# Altium schematic symbol library gamma_gestionkicker.SchLib: 19 symbols
Pins are listed as number, name and electrical type; pins without a type are passive.

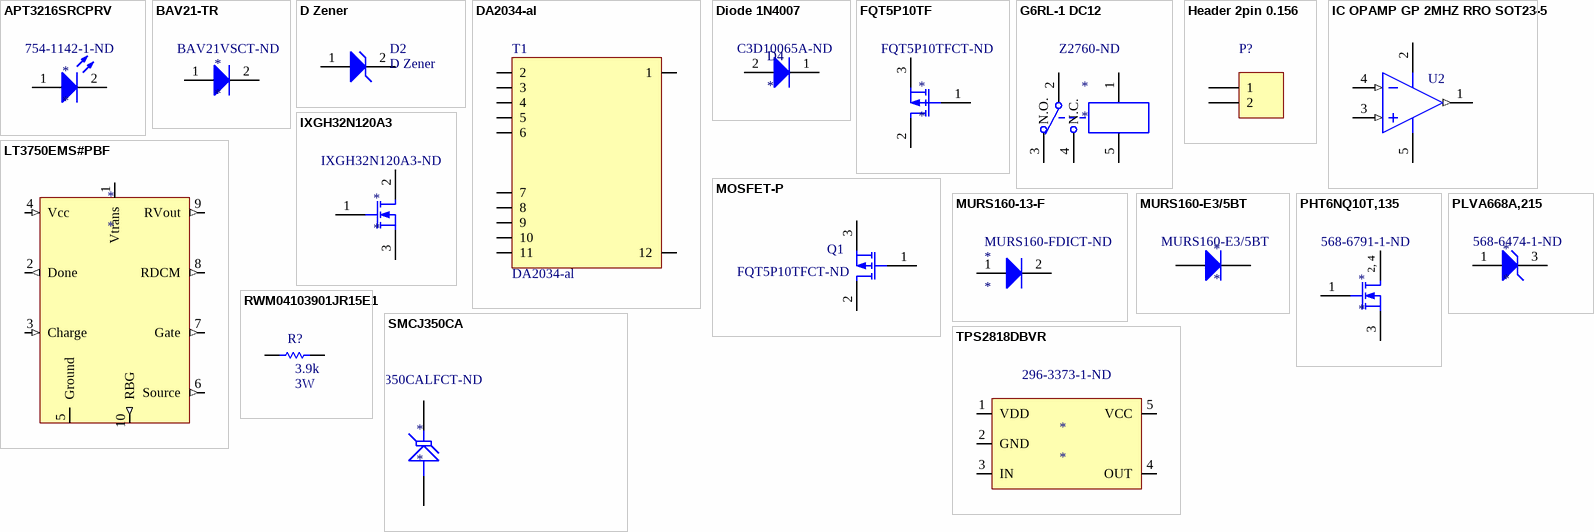
[diagram p0: symbols APT3216SRCPRV to TPS2818DBVR]

## APT3216SRCPRV
designator *  Supplier Part Number 1: 754-1142-1-ND
LED RED CLEAR 1206 SMD; Manufacturer: Kingbright; Manufacturer Part Number: APT3216SRCPRV; Lens Color: Colorless; Millicandela Rating: 30mcd; Lens Style/Size: Rectangle with Flat Top, 2.00mm x 1.60mm; Voltage - Forward (Vf) (Typ): 1.85V; Current - Test: 20mA; Viewing Angle: 120°; Wavelength - Dominant: 640nm; Wavelength - Peak: 655nm; Supplier 1: Digi-Key; RoHS: RoHS Compliant; Category: Optoelectronics; Stock 1: 56279; Pricing 1: 1=0.64, 10=0.462, 25=0.3536, 100=0.2308, 250=0.1692, 500=0.14356, 1000=0.11793 (CAD); Packaging: Cut Tape (CT); Part Status: Active; Color: Red; Lens Transparency: Clear; Mounting Type: Surface Mount; Features: -; Package / Case: 1206 (3216 Metric); Supplier Device Package: Chip LED; Size / Dimension: 3.20mm L x 1.60mm W; Height (Max): 0.75mm; ComponentLink1URL: http://www.kingbrightusa.com/images/catalog/SPEC/APT3216SRCPRV.pdf; ComponentLink1Description: http://www.kingbrightusa.com/images/catalog/SPEC/APT3216SRCPRV.pdf
footprint 5mm_led
pins: 1 A, 2 K

## BAV21-TR
designator *  Supplier Part Number 1: BAV21VSCT-ND
DIODE GEN PURP 200V 250MA DO35; Manufacturer: Vishay Semiconductor Diodes Division; Manufacturer Part Number: BAV21-TR; Diode Type: Standard; Current - Average Rectified (Io): 250mA (DC); Voltage - Forward (Vf) (Max) @ If: 1V @ 100mA; Speed: Fast Recovery =< 500ns, > 200mA (Io); Reverse Recovery Time (trr): 50ns; Current - Reverse Leakage @ Vr: 100nA @ 200V; Capacitance @ Vr, F: 1.5pF @ 0V, 1MHz; Supplier 1: Digi-Key; RoHS: RoHS Compliant; Category: Discrete Semiconductor Products; Stock 1: 37950; Pricing 1: 1=0.25, 10=0.229, 25=0.218, 100=0.1249, 250=0.09256, 500=0.07682, 1000=0.05238, 2500=0.04452, 5000=0.04016 (CAD); Packaging: Cut Tape (CT); Part Status: Active; Voltage - DC Reverse (Vr) (Max): 200V; Mounting Type: Through Hole; Package / Case: DO-204AH, DO-35, Axial; Supplier Device Package: DO-35; Operating Temperature - Junction: 175°C (Max); ComponentLink1URL: http://www.vishay.com/docs/85543/bav17.pdf; ComponentLink1Description: http://www.vishay.com/docs/85543/bav17.pdf
footprint DO-35 (Diode, Axial; Body 3.8 x 1.9 mm (LxDia. max), Lead Dia. 0.53 mm (max))
pins: 1 A, 2 K

## D Zener
designator D2
Zener Diode; Published: 8-Jun-2000; LatestRevisionDate: 17-Jul-2002; LatestRevisionNote: Re-released for DXP Platform.; PackageReference: DIODE-0.7; Publisher: Altium Limited; PackageDescription: Diode, Thru-Hole; 2 Leads; 0.7 in Pin Spacing
footprint DIODE-0.7 (Diode, Thru-Hole; 2 Leads; 0.7 in Pin Spacing)
simulation model ZENER (Diode)
signal-integrity model D Zener
pins: 1 A, 2 K

## DA2034-al
designator T1
Supplier 1: Coilcraft; Supplier Part Number 1: Da2034-al
footprint DA2034 (Coilcraft Da2034-al)
pins: 1, 2, 3, 4, 5, 6, 7, 8, 9, 10, 11, 12

## Diode 1N4007
designator D4  Supplier Part Number 1: C3D10065A-ND
DIODE SCHOTTKY 650V 10A TO220-2; Manufacturer: Cree/Wolfspeed; Manufacturer Part Number: C3D10065A; Diode Type: Silicon Carbide Schottky; Current - Average Rectified (Io): 10A (DC); Voltage - Forward (Vf) (Max) @ If: 1.8V @ 10A; Speed: No Recovery Time > 500mA (Io); Reverse Recovery Time (trr): 0ns; Current - Reverse Leakage @ Vr: 60µA @ 650V; Capacitance @ Vr, F: 480pF @ 0V, 1MHz; Supplier 1: Digi-Key; RoHS: RoHS Compliant; Category: Discrete Semiconductor Products; Stock 1: 1057; Pricing 1: 1=7.29, 100=6.0738, 500=5.2122, 1000=4.56245 (CAD); Packaging: Tube; Part Status: Active; Voltage - DC Reverse (Vr) (Max): 650V; Mounting Type: Through Hole; Package / Case: TO-220-2; Supplier Device Package: TO-220-2; Operating Temperature - Junction: -55°C ~ 175°C; ComponentLink1URL: http://www.wolfspeed.com/media/downloads/73/C3D10065A.pdf; ComponentLink1Description: http://www.wolfspeed.com/media/downloads/73/C3D10065A.pdf
footprint TO-220-2 (TO, Thru-Hole, Vertical, Heatsink Mounted; 3 In-Line Leads (1 Absent); Pitch 2.54 mm)
pins: 1 K, 2 A

## FQT5P10TF
designator *  Supplier Part Number 1: FQT5P10TFCT-ND
MOSFET P-CH 100V 1A SOT-223; Manufacturer: Fairchild Semiconductor; Manufacturer Part Number: FQT5P10TF; FET Type: MOSFET P-Channel, Metal Oxide; FET Feature: Standard; Current - Continuous Drain (Id) @ 25°C: 1A (Tc); Rds On (Max) @ Id, Vgs: 1.05 Ohm @ 500mA, 10V; Vgs(th) (Max) @ Id: 4V @ 250µA; Gate Charge (Qg) @ Vgs: 8.2nC @ 10V; Input Capacitance (Ciss) @ Vds: 250pF @ 25V; Power - Max: 2W; Supplier 1: Digi-Key; RoHS: RoHS Compliant; Category: Discrete Semiconductor Products; Stock 1: 526; Pricing 1: 1=0.86, 10=0.737, 100=0.5503, 500=0.43224, 1000=0.33321 (CAD); Packaging: Cut Tape (CT); Part Status: Active; Drain to Source Voltage (Vdss): 100V; Operating Temperature: -55°C ~ 150°C (TJ); Mounting Type: Surface Mount; Package / Case: TO-261-4, TO-261AA; Supplier Device Package: SOT-223-4; ComponentLink1URL: http://www.fairchildsemi.com/datasheets/FQ/FQT5P10.pdf; ComponentLink1Description: http://www.fairchildsemi.com/datasheets/FQ/FQT5P10.pdf
footprint SOT-223 (SOT-223/SC-73; 4 Leads; Body 6.7 x 7.3 mm, inc. leads (LxW max))
pins: 1 G, 2 D, 3 S

## G6RL-1 DC12
designator *  Supplier Part Number 1: Z2760-ND
RELAY GEN PURPOSE SPDT 8A 12V; Manufacturer: Omron Electronics Inc-EMC Div; Manufacturer Part Number: G6RL-1 DC12; Relay Type: General Purpose; Coil Type: Non Latching; Coil Current: 18.3mA; Coil Voltage: 12VDC; Contact Form: SPDT (1 Form C); Switching Voltage: 400VAC, 300VDC - Max; Turn On Voltage (Max): 8.4 VDC; Turn Off Voltage (Min): 1.2 VDC; Operate Time: 10ms; Release Time: 5ms; Coil Power: 220 mW; Coil Resistance: 654 Ohms; Supplier 1: Digi-Key; RoHS: RoHS Compliant; Category: Relays; Stock 1: 680; Pricing 1: 1=4.79, 10=4.489, 25=3.99, 50=3.7906, 100=3.591, 250=3.19208, 500=2.99256, 1000=2.79306, 5000=2.69331 (CAD); Packaging: Bulk; Part Status: Active; Contact Rating (Current): 8A; Features: Sealed - Flux Protection; Mounting Type: Through Hole; Termination Style: PC Pin; Contact Material: Silver Nickel (AgNi); Operating Temperature: -40°C ~ 85°C; ComponentLink1URL: http://www.omron.com/ecb/products/pdf/en-g6rl.pdf; ComponentLink1Description: http://www.omron.com/ecb/products/pdf/en-g6rl.pdf
footprint G6RL (Omron SPDT relay)
pins: 1 Coil Input +, 2 Signal Input, 3 N.O., 4 N.C., 5 Coil Input -

## Header 2pin 0.156
designator P?, comment Header 2  (value not drawn)
Header, 2-Pin, 0.156mil
footprint 0.156mil header (SOIC, 4-Leads, Body 2,60x4,55mm, Pitch 1,27mm, IPC Medium Density)
pins: 1, 2

## IC OPAMP GP 2MHZ RRO SOT23-5
designator U2, comment opamp - MCP6L71RT-E/OTCT-ND  (value not drawn)
FET Operational Amplifier; Supplier 1: Digi-Key; Supplier Part Number 1: MCP6L71RT-E/OTCT-ND
footprint SOT-23-5
pins: 1 OUT (out), 2 V+ (power), 3 IN+ (in), 4 IN- (in), 5 V- (power)

## IXGH32N120A3
designator *  Supplier Part Number 1: IXGH32N120A3-ND
IGBT 1200V 75A 300W TO247; Manufacturer: IXYS; Manufacturer Part Number: IXGH32N120A3; IGBT Type: PT; Current - Collector Pulsed (Icm): 230A; Vce(on) (Max) @ Vge, Ic: 2.35V @ 15V, 32A; Input Type: Standard; Gate Charge: 89nC; Supplier 1: Digi-Key; RoHS: RoHS Compliant; Category: Discrete Semiconductor Products; Stock 1: 13; Pricing 1: 1=10.99, 10=9.885, 25=9.0056, 100=8.1269, 250=7.468, 500=6.80904, 1000=5.93046, 2500=5.71081, 5000=5.49117 (CAD); Packaging: Tube; Part Status: Active; Voltage - Collector Emitter Breakdown (Max): 1200V; Current - Collector (Ic) (Max): 75A; Power - Max: 300W; Switching Energy: -; Td (on/off) @ 25°C: -; Test Condition: -; Reverse Recovery Time (trr): -; Package / Case: TO-247-3; Mounting Type: Through Hole; Supplier Device Package: TO-247AD (IXGH); ComponentLink1URL: http://ixdev.ixys.com/DataSheet/DS99608C(IXGH-GT32N120A3).pdf; ComponentLink1Description: http://ixdev.ixys.com/DataSheet/DS99608C(IXGH-GT32N120A3).pdf
footprint TO-247 (bent)
pins: 1 G, 2 D, 3 S

## LT3750EMS#PBF
designator *
IC CONVERTER 10-MSOP; Manufacturer: Linear Technology; Manufacturer Part Number: LT3750EMS#PBF; Supplier 1: Digi-Key; RoHS: RoHS Compliant; Category: Integrated Circuits (ICs); Stock 1: 1621; Pricing 1: 1=9.94, 25=7.0624, 100=5.8196 (CAD); Packaging: Tube; Part Status: Active; Type: Flyback, Forward Converter; Applications: Power Supply Controller; Mounting Type: Surface Mount; Package / Case: 10-TFSOP, 10-MSOP (0.118", 3.00mm Width); Supplier Device Package: 10-MSOP; ComponentLink1URL: http://www.linear.com/docs/10239; ComponentLink1Description: http://www.linear.com/docs/10239
footprint MSOP-10 (Shrink Small Outline, MSOP; 10 Leads; Body Width 3 mm; Pitch 0.5 mm)
pins: 1 Vtrans (io), 2 Done (out), 3 Charge (in), 4 Vcc (in), 5 Ground (power), 6 Source (out), 7 Gate (out), 8 RDCM (out), 9 RVout (out), 10 RBG (out)

## MOSFET-P
designator Q1, comment Supplier Part Number 1: FQT5P10TFCT-ND  (hidden comment: MOSFET-P - FQT5P10TFCT-ND)
P-Channel MOSFET; Supplier 1: Digi-Key
simulation model PMOS (MOSFET-P)
footprint SOT223_N (SOT223, 4-Leads, Body 6.5x3.5mm, Pitch 2.3mm, Lead Span 7mm, IPC Medium Density)
footprint SOT-223 (SOT-223/SC-73; 4 Leads; Body 6.7 x 7.3 mm, inc. leads (LxW max))
pins: 1 G, 2 D, 3 S

## MURS160-13-F
designator *  Supplier Part Number 1: MURS160-FDICT-ND
DIODE GEN PURP 600V 1A SMB; Manufacturer: Diodes Incorporated; Manufacturer Part Number: MURS160-13-F; Diode Type: Standard; Voltage - Forward (Vf) (Max) @ If: 1.25V @ 1A; Speed: Fast Recovery =< 500ns, > 200mA (Io); Reverse Recovery Time (trr): 50ns; Current - Reverse Leakage @ Vr: 5µA @ 600V; Capacitance @ Vr, F: 10pF @ 4V, 1MHz; Supplier 1: Digi-Key; RoHS: RoHS Compliant; Category: Discrete Semiconductor Products; Stock 1: 18621; Pricing 1: 1=0.55, 10=0.445, 100=0.303, 500=0.2268, 1000=0.16986 (CAD); Packaging: Cut Tape (CT); Part Status: Active; Voltage - DC Reverse (Vr) (Max): 600V; Current - Average Rectified (Io): 1A; Mounting Type: Surface Mount; Package / Case: DO-214AA, SMB; Supplier Device Package: SMB; Operating Temperature - Junction: -55°C ~ 175°C; ComponentLink1URL: http://www.diodes.com/_files/datasheets/ds30130.pdf; ComponentLink1Description: http://www.diodes.com/_files/datasheets/ds30130.pdf
footprint SMB (DO-214-AA/SMB; 2 C-Bend Leads; Body 5.3 x 3.6 mm, inc. leads (LxW))
pins: 1 A, 2 K

## MURS160-E3/5BT
designator *  Manufacturer Part Number: MURS160-E3/5BT
DIODE GEN PURP 600V 2A DO214AA; Manufacturer: Vishay Semiconductor Diodes Division; Diode Type: Standard; Voltage - Forward (Vf) (Max) @ If: 1.25V @ 1A; Speed: Fast Recovery =< 500ns, > 200mA (Io); Reverse Recovery Time (trr): 75ns; Current - Reverse Leakage @ Vr: 5µA @ 600V; Supplier 1: Digi-Key; RoHS: RoHS Compliant; Category: Discrete Semiconductor Products; Stock 1: 4853; Pricing 1: 1=0.55, 10=0.442, 25=0.4044, 100=0.3011, 250=0.27296, 500=0.22592, 1000=0.16943 (CAD); Packaging: Cut Tape (CT); Part Status: Active; Voltage - DC Reverse (Vr) (Max): 600V; Current - Average Rectified (Io): 2A; Capacitance @ Vr, F: -; Mounting Type: Surface Mount; Package / Case: DO-214AA, SMB; Supplier Device Package: DO-214AA (SMB); Operating Temperature - Junction: -65°C ~ 175°C; ComponentLink1URL: http://www.vishay.com/docs/88688/murs140.pdf; ComponentLink1Description: http://www.vishay.com/docs/88688/murs140.pdf
footprint SMB (DO-214-AA/SMB; 2 C-Bend Leads; Body 5.3 x 3.6 mm, inc. leads (LxW))
pins: 1 A, 2 K

## PHT6NQ10T,135
designator *  Supplier Part Number 1: 568-6791-1-ND
MOSFET N-CH 100V 3A SOT223; Manufacturer: NXP Semiconductors; Manufacturer Part Number: PHT6NQ10T,135; FET Type: MOSFET N-Channel, Metal Oxide; FET Feature: Standard; Current - Continuous Drain (Id) @ 25°C: 3A (Ta); Rds On (Max) @ Id, Vgs: 90 mOhm @ 3A, 10V; Vgs(th) (Max) @ Id: 4V @ 1mA; Gate Charge (Qg) @ Vgs: 21nC @ 10V; Input Capacitance (Ciss) @ Vds: 633pF @ 25V; Power - Max: 1.8W; Supplier 1: Digi-Key; RoHS: RoHS Compliant; Category: Discrete Semiconductor Products; Stock 1: 9189; Pricing 1: 1=1.38, 10=1.242, 100=0.9684, 500=0.80092, 1000=0.6334 (CAD); Packaging: Cut Tape (CT); Part Status: Active; Drain to Source Voltage (Vdss): 100V; Operating Temperature: -65°C ~ 150°C (TJ); Mounting Type: Surface Mount; Package / Case: TO-261-4, TO-261AA; Supplier Device Package: SC-73; ComponentLink1URL: http://www.nxp.com/documents/data_sheet/PHT6NQ10T.pdf; ComponentLink1Description: http://www.nxp.com/documents/data_sheet/PHT6NQ10T.pdf
footprint SOT-223 (SOT-223/SC-73; 4 Leads; Body 6.7 x 7.3 mm, inc. leads (LxW max))
pins: 1 G, 2 D, 3 S, 4 D
text: 2, 4

## PLVA668A,215
designator *  Supplier Part Number 1: 568-6474-1-ND
DIODE ZENER 6.8V 250MW SOT23; Manufacturer: NXP Semiconductors; Manufacturer Part Number: PLVA668A,215; Tolerance: ±3%; Impedance (Max) (Zzt): 100 Ohm; Current - Reverse Leakage @ Vr: 6nA @ 6.1V; Voltage - Forward (Vf) (Max) @ If: 900mV @ 10mA; Supplier 1: Digi-Key; RoHS: RoHS Compliant; Category: Discrete Semiconductor Products; Stock 1: 4213; Pricing 1: 1=0.54, 10=0.407, 100=0.2535, 500=0.17338, 1000=0.13327 (CAD); Packaging: Cut Tape (CT); Part Status: Active; Voltage - Zener (Nom) (Vz): 6.8V; Power - Max: 250mW; Operating Temperature: -65°C ~ 150°C; Mounting Type: Surface Mount; Package / Case: TO-236-3, SC-59, SOT-23-3; Supplier Device Package: SOT-23 (TO-236AB); ComponentLink1URL: http://www.nxp.com/documents/data_sheet/PLVA6XXA_SERIES.pdf; ComponentLink1Description: http://www.nxp.com/documents/data_sheet/PLVA6XXA_SERIES.pdf
footprint SOT-23-3
pins: 1 A, 3 K

## RWM04103901JR15E1
designator R?  Resistance (Ohms): 3.9k  Power (Watts): 3W  (hidden comment: RWM04103901JR15E1)
RES WIREWOUND 3.9K OHM 3W; Manufacturer: Vishay Sfernice; Tolerance: ±5%; Temperature Coefficient: ±75ppm/°C; Supplier 1: Digi-Key; Manufacturer Part Number: RWM04103901JR15E1; RoHS: RoHS Compliant; Category: Resistors; Stock 1: 947; Pricing 1: 1=1.64, 10=1.455, 25=1.3372, 50=1.2202, 100=1.0559, 250=0.8916, 500=0.75078 (CAD); Packaging: Cut Tape (CT); Part Status: Discontinued; Composition: Wirewound; Features: Flame Proof, Safety; Operating Temperature: -55°C ~ 350°C; Package / Case: Axial; Supplier Device Package: Axial; Size / Dimension: 0.217" Dia x 0.472" L (5.50mm x 12.00mm); Height: -; Number of Terminations: 2; Failure Rate: -; ComponentLink1URL: http://www.vishay.com/docs/50008/rwm.pdf; ComponentLink1Description: http://www.vishay.com/docs/50008/rwm.pdf; Supplier Part Number 1: RWMA-3.9KCT-ND
footprint RWM4x10
pins: 1, 2

## SMCJ350CA
designator *  Supplier Part Number 1: SMCJ350CALFCT-ND
TVS DIODE 350VWM 567VC SMC; Manufacturer: Littelfuse Inc.; Manufacturer Part Number: SMCJ350CA; Bidirectional Channels: 1; Voltage - Reverse Standoff (Typ): 350V; Voltage - Breakdown (Min): 391V; Voltage - Clamping (Max) @ Ipp: 567V; Current - Peak Pulse (10/1000µs): 2.6A; Power - Peak Pulse: 1500W (1.5kW); Power Line Protection: No; Supplier 1: Digi-Key; RoHS: RoHS Compliant; Category: Circuit Protection; Stock 1: 2977; Pricing 1: 1=1.27, 10=1.122, 25=1.0124, 100=0.8859, 250=0.777, 500=0.68908, 1000=0.54495 (CAD); Packaging: Cut Tape (CT); Part Status: Active; Type: Zener; Unidirectional Channels: -; Applications: General Purpose; Capacitance @ Frequency: -; Operating Temperature: -55°C ~ 150°C (TJ); Mounting Type: Surface Mount; Package / Case: DO-214AB, SMC; Supplier Device Package: DO-214AB (SMCJ); ComponentLink1URL: http://www.littelfuse.com/products/tvs-diodes/surface-mount/~/media/electronics/datasheets/tvs_diodes/littelfuse_tvs_diode_smcj_datasheet.pdf.pdf; ComponentLink1Description: http://www.littelfuse.com/products/tvs-diodes/surface-mount/~/media/electronics/datasheets/tvs_diodes/littelfuse_tvs_diode_smcj_datasheet.pdf.pdf
footprint SMC (DO-214-AB/SMC; 2 C-Bend Leads; Body 7.9 x 5.9 mm, inc. leads (LxW))
pins: 1 A, 2 K

## TPS2818DBVR
designator *  Supplier Part Number 1: 296-3373-1-ND
IC INVERTING FET DRVR SOT-23-5; Manufacturer: Texas Instruments; Manufacturer Part Number: TPS2818DBVR; Driven Configuration: Low-Side; Channel Type: Single; Number of Drivers: 1; Gate Type: N-Channel MOSFET; Voltage - Supply: 4 V ~ 14 V; Logic Voltage - VIL, VIH: 1V, 4V; Current - Peak Output (Source, Sink): 2A, 2A; Rise / Fall Time (Typ): 14ns, 14ns; Supplier 1: Digi-Key; RoHS: RoHS Compliant; Category: Integrated Circuits (ICs); Stock 1: 14841; Pricing 1: 1=2.71, 10=2.43, 100=1.9489, 500=1.6018, 1000=1.32593 (CAD); Packaging: Cut Tape (CT); Part Status: Active; Input Type: Inverting; High Side Voltage - Max (Bootstrap): -; Operating Temperature: -40°C ~ 125°C (TA); Mounting Type: Surface Mount; Package / Case: SC-74A, SOT-753; Supplier Device Package: SOT-23-5; ComponentLink1URL: http://www.ti.com/lit/ds/symlink/tps2816.pdf; ComponentLink1Description: http://www.ti.com/lit/ds/symlink/tps2816.pdf
footprint SOT-23-5
pins: 1 VDD (io), 2 GND (io), 3 IN (io), 4 OUT (io), 5 VCC (io)